# Altium footprint library BM09B-GHS-TBT(LF)(SN)(N).PcbLib: 1 footprints
Each footprint in its own frame and in the unit in brackets; x right, y up, seen from the top. Pads: shape width x height; smd on the part's side, far side on the other; paste and mask are expansions set on the pad; w line width, h text height; cw(c..) or ccw(c..) is an arc to the next point about the centre after c.
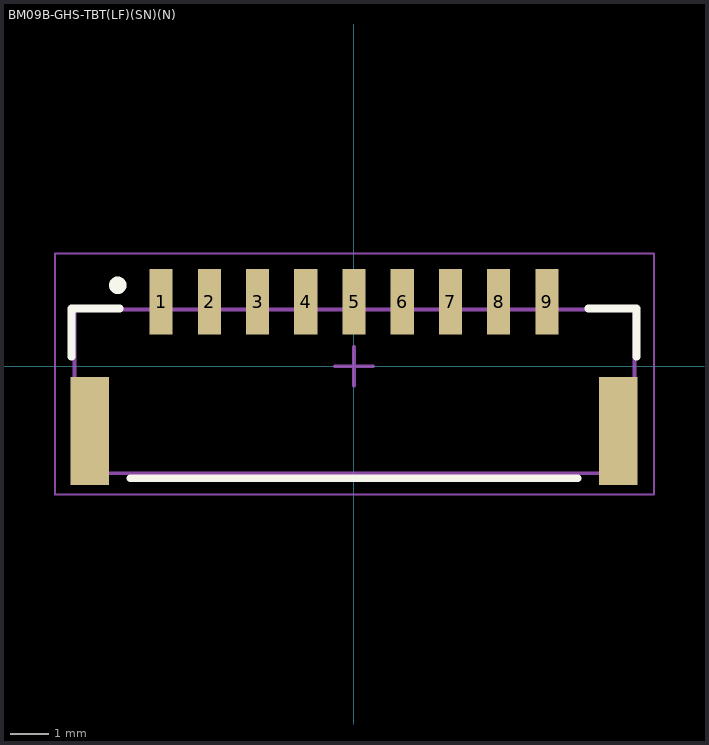
[diagram p0: the footprint, top view; thin cyan lines are the x and y axes]

## BM09B-GHS-TBT(LF)(SN)(N) [mm]
pads (11):
  rect 0.6x1.7 smd: 1(-5,1.675) 2(-3.75,1.675) 3(-2.5,1.675) 4(-1.25,1.675) 5(0,1.675) 6(1.25,1.675) 7(2.5,1.675) 8(3.75,1.675) 9(5,1.675)
  rect 1x2.8 smd: ""(-6.85,-1.675) ""(6.85,-1.675)
Top Overlay:
  circle w0.254: c-6.125,2.1 r0.1
  lines w0.2: -7.325,0.25 -7.325,1.5 -6.075,1.5 ; -5.8,-2.9 5.8,-2.9 ; 6.075,1.5 7.325,1.5 7.325,0.25
Mechanical 1:
  lines w0.1: -7.25,-2.775 -7.25,1.475 7.275,1.475 7.275,-2.775 -7.25,-2.775
  text ".Designator" at -3.099,-1.258 h0.65
Mechanical 2:
  lines w0.05: -7.75,-3.325 -7.75,2.925 7.775,2.925 7.775,-3.325 -7.75,-3.325
  lines w0.1: -0.5,0 0.5,0 ; 0,-0.5 0,0.5
3D body "BM09B-GHS-TBT.STEP": height 4.18, standoff -0.03, extent -7.225,-2.775 7.275,2.175